# Altium footprint library SPTAF_1_15-3.5-EL.PcbLib: 2 footprints
Each footprint in its own frame and in the unit in brackets; x right, y up, seen from the top. Pads: shape width x height; smd on the part's side, far side on the other; paste and mask are expansions set on the pad; w line width, h text height; cw(c..) or ccw(c..) is an arc to the next point about the centre after c.
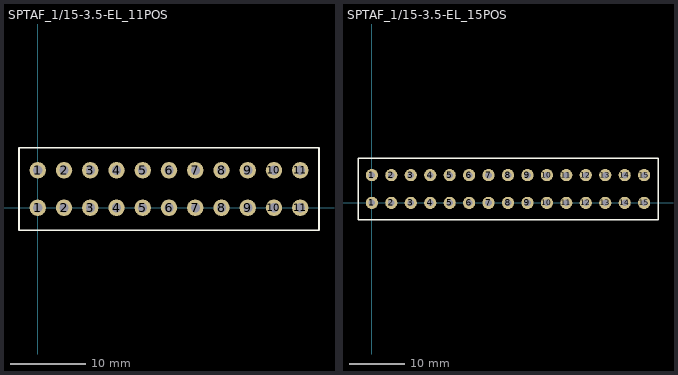
[diagram p0: the footprints below, top view; thin cyan lines are the x and y axes]

## SPTAF_1/15-3.5-EL_11POS [mm] "PCB terminal block - SPTAF 1/15-3,5-EL"
height 10.2
pads (22):
  round 2.2 hole 1.2: 1(0,0) 1(0,5) 2(3.5,0) 2(3.5,5) 3(7,0) 3(7,5) 4(10.5,0) 4(10.5,5) 5(14,0) 5(14,5) 6(17.5,0) 6(17.5,5) 7(21,0) 7(21,5) 8(24.5,0) 8(24.5,5) 9(28,0) 9(28,5) 10(31.5,0) 10(31.5,5) 11(35,0) 11(35,5)
Top Overlay:
  lines w0.254: -2.5,-3 -2.5,8 37.5,8 37.5,-3 -2.5,-3

## SPTAF_1/15-3.5-EL_15POS [mm] "PCB terminal block - SPTAF 1/15-3,5-EL"
height 10.2
pads (30):
  round 2.2 hole 1.2: 1(0,0) 1(0,5) 2(3.5,0) 2(3.5,5) 3(7,0) 3(7,5) 4(10.5,0) 4(10.5,5) 5(14,0) 5(14,5) 6(17.5,0) 6(17.5,5) 7(21,0) 7(21,5) 8(24.5,0) 8(24.5,5) 9(28,0) 9(28,5) 10(31.5,0) 10(31.5,5) 11(35,0) 11(35,5) 12(38.5,0) 12(38.5,5) 13(42,0) 13(42,5) 14(45.5,0) 14(45.5,5) 15(49,0) 15(49,5)
Top Overlay:
  lines w0.254: -2.5,-3 51.5,-3 51.5,8 -2.5,8 -2.5,-3